# Altium footprint library 0402_Balda.PcbLib: 1 footprints
Each footprint in its own frame and in the unit in brackets; x right, y up, seen from the top. Pads: shape width x height; smd on the part's side, far side on the other; paste and mask are expansions set on the pad; w line width, h text height; cw(c..) or ccw(c..) is an arc to the next point about the centre after c.
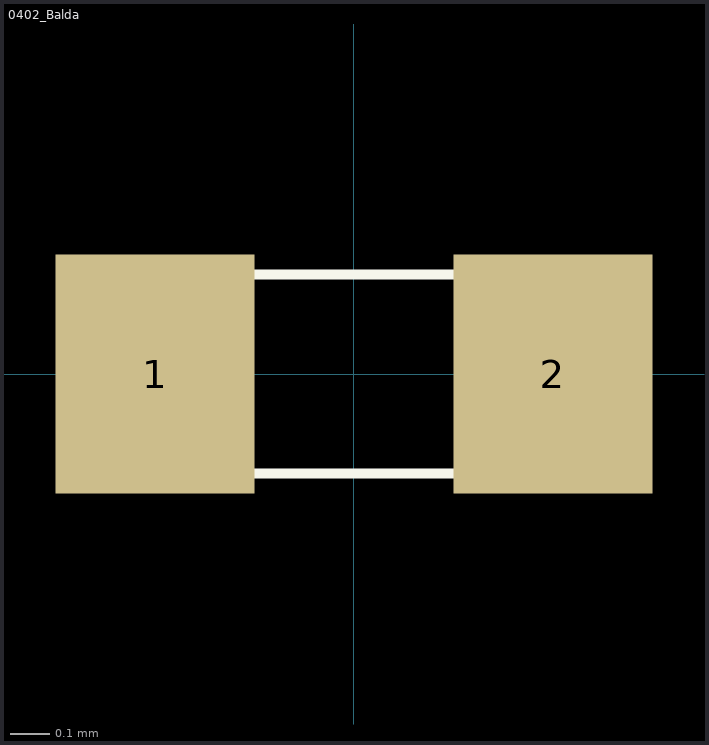
[diagram p0: the footprint, top view; thin cyan lines are the x and y axes]

## 0402_Balda [mm]
pads (2):
  rect 0.5x0.6 smd mask+0.051: 1(-0.5,0) 2(0.5,0)
Top Overlay:
  lines w0.025: -0.5,-0.25 0.5,-0.25 0.5,0.25 -0.5,0.25 -0.5,-0.25
3D body "User Library-res0402-1.STEP": height 0.3, standoff 0, extent -0.5,-0.254 0.5,0.246